# EAGLE library part 53261-0871 (library 53261-0871)
Molex PICOBLADE Series, Series Number 53261, 1.25mm Pitch, 8 Way 1 Row Shrouded Right Angle PCB Header, Surface Mount <https://componentsearchengine.com/Images/1/53261-0871.jpg> Source: Datasheet <http://www.molex.com/webdocs/datasheets/pdf/en-us/0532610871_PCB_HEADERS.pdf>
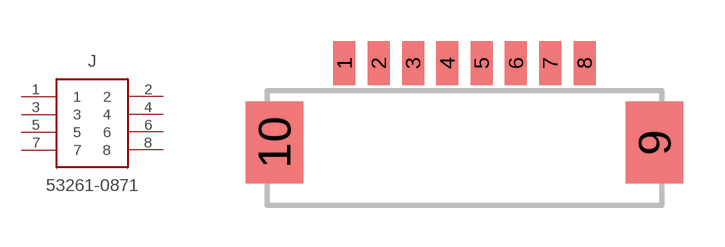
[diagram p0: symbol with the pads of 53261-0871; footprint 53261-0871]

Designator prefix J

## 53261-0871 (Description: Molex PICOBLADE Series, Series Number 53261, 1.25mm Pitch, 8 Way 1 Row Shrouded Right Angle PCB Header, Surface Mount; Height: mm; Manufacturer_Name: Molex; Manufacturer_Part_Number: 53261-0871; RS_Part_Number: 5427157P; Supplier_Name: RS)  [53261-0871]
1  1  pas
2  2  pas
3  3  pas
4  4  pas
5  5  pas
6  6  pas
7  7  pas
8  8  pas

## Footprint 53261-0871 (pad centres in mm)
53261-0871
smd 0.8 x 1.6: 1 -4.375,1.004; 2 -3.125,1.004; 3 -1.875,1.004; 4 -0.625,1.004; 5 0.625,1.004; 6 1.875,1.004; 7 3.125,1.004; 8 4.375,1.004
smd 2.1 x 3: 9 6.925,-1.896; 10 -6.925,-1.896